# Altium footprint library adafruit.PCBLIB: 630 footprints (part 14 of 40)
Each footprint in its own frame and in the unit in brackets; x right, y up, seen from the top. Pads: shape width x height; smd on the part's side, far side on the other; paste and mask are expansions set on the pad; w line width, h text height; cw(c..) or ccw(c..) is an arc to the next point about the centre after c.
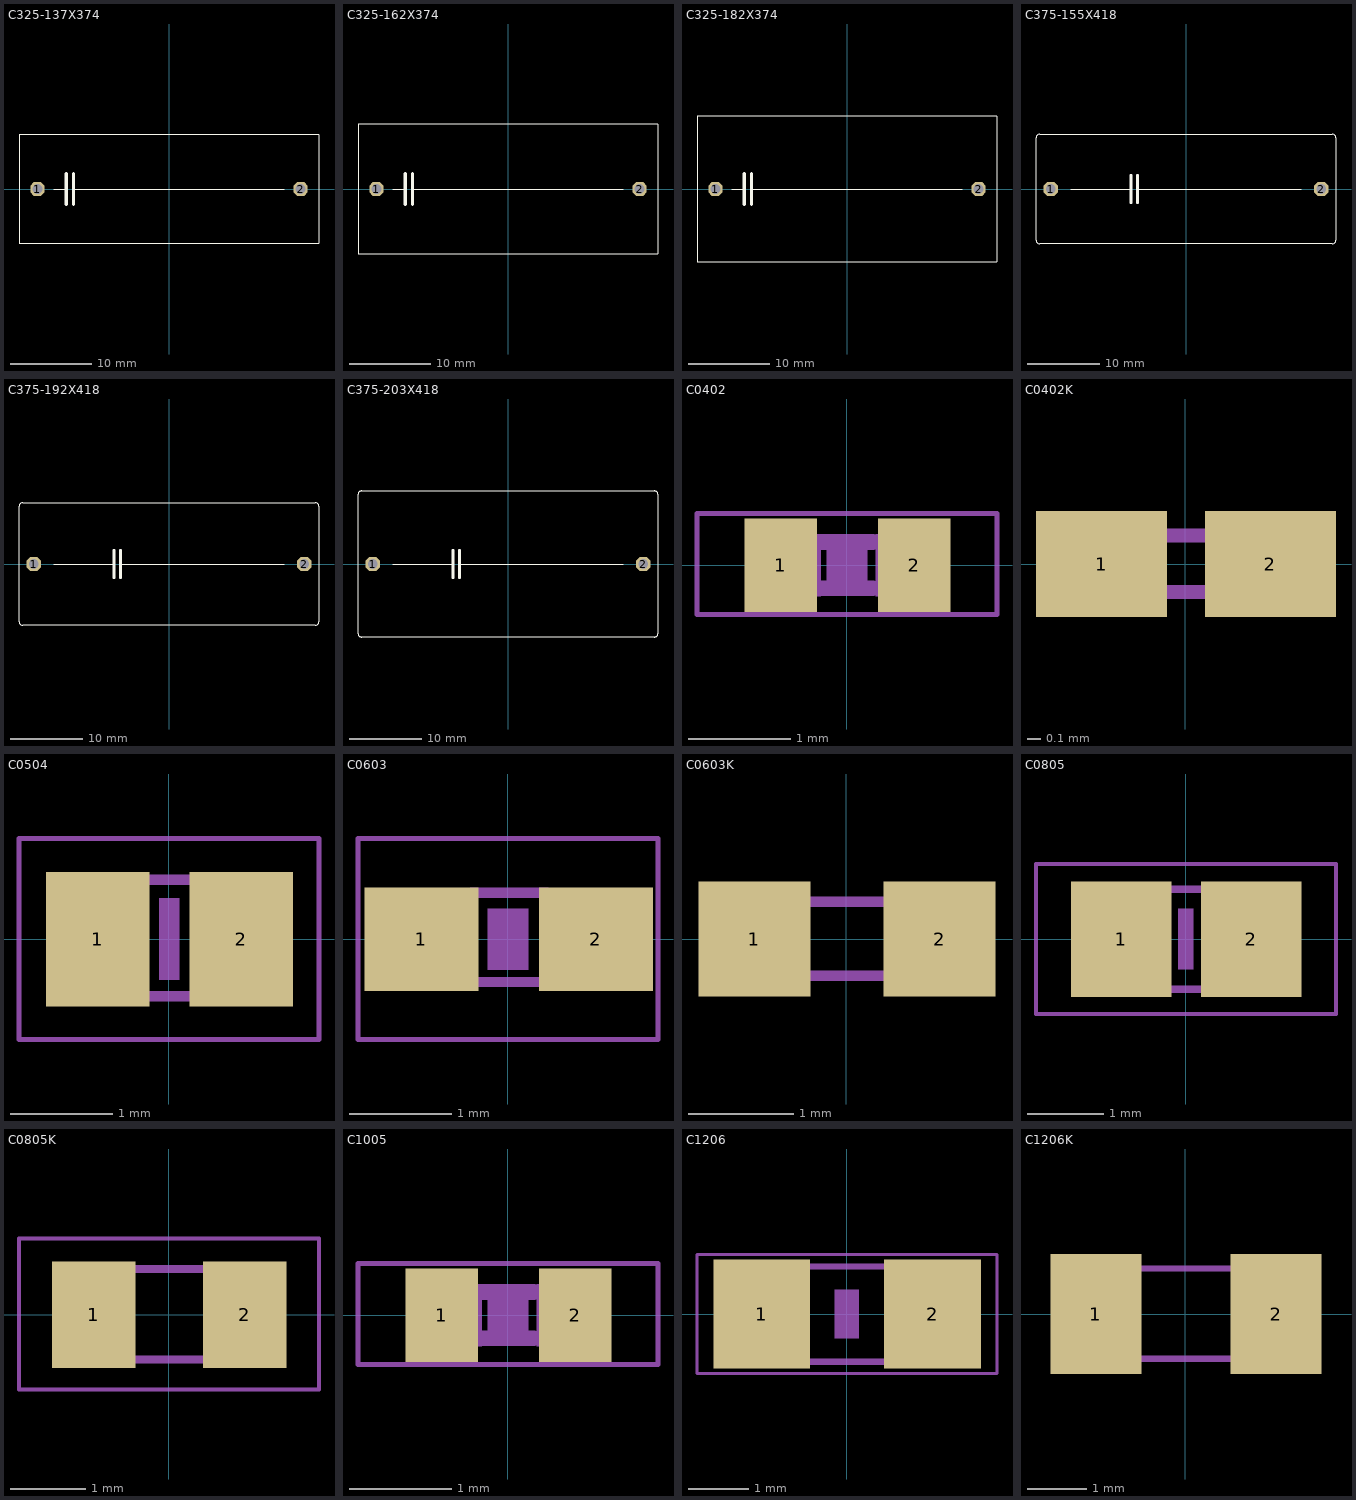
[diagram p13: the footprints below, top view; thin cyan lines are the x and y axes]

## C325-137X374 [mil]
pads (2):
  oct 70.5x70.5 hole 47: 1(-640,0) 2(640,0)
Top Overlay:
  lines w6: -562,0 -500,0 ; -465,0 562,0 ; -730,-265 -730,265 730,265 730,-265 -730,-265
  lines w16: -500,-75 -500,0 -500,75 ; -465,-75 -465,0 -465,75

## C325-162X374 [mil]
pads (2):
  oct 70.5x70.5 hole 47: 1(-640,0) 2(640,0)
Top Overlay:
  lines w6: -562,0 -500,0 ; -465,0 562,0 ; -730,-315 -730,315 730,315 730,-315 -730,-315
  lines w16: -500,-75 -500,0 -500,75 ; -465,-75 -465,0 -465,75

## C325-182X374 [mil]
pads (2):
  oct 70.5x70.5 hole 47: 1(-640,0) 2(640,0)
Top Overlay:
  lines w6: -562,0 -500,0 ; -465,0 562,0 ; -730,-355 -730,355 730,355 730,-355 -730,-355
  lines w16: -500,-75 -500,0 -500,75 ; -465,-75 -465,0 -465,75

## C375-155X418 [mil]
pads (2):
  oct 78x78 hole 52: 1(-740,0) 2(740,0)
Top Overlay:
  lines w6: -630,0 -300,0 ; -265,0 630,0 ; -820,-280 -820,280 cw(c-800,280) -800,300 800,300 cw(c800,280) 820,280 820,-280 cw(c800,-280) 800,-300 -800,-300 cw(c-800,-280) -820,-280
  lines w16: -300,-75 -300,0 -300,75 ; -265,-75 -265,0 -265,75

## C375-192X418 [mil]
pads (2):
  oct 78x78 hole 52: 1(-740,0) 2(740,0)
Top Overlay:
  lines w6: -630,0 -300,0 ; -265,0 630,0 ; -820,-315 -820,315 cw(c-800,315) -800,335 800,335 cw(c800,315) 820,315 820,-315 cw(c800,-315) 800,-335 -800,-335 cw(c-800,-315) -820,-315
  lines w16: -300,-75 -300,0 -300,75 ; -265,-75 -265,0 -265,75

## C375-203X418 [mil]
pads (2):
  oct 78x78 hole 52: 1(-740,0) 2(740,0)
Top Overlay:
  lines w6: -630,0 -300,0 ; -265,0 630,0 ; -820,-380 -820,380 cw(c-800,380) -800,400 800,400 cw(c800,380) 820,380 820,-380 cw(c800,-380) 800,-400 -800,-400 cw(c-800,-380) -820,-380
  lines w16: -300,-75 -300,0 -300,75 ; -265,-75 -265,0 -265,75

## C0402 [mil]
pads (2):
  rect 28x36 smd: 1(-25.59,0) 2(26,0)
Mechanical 6:
  rectangle: -7.87,-11.81 8,12
Mechanical 16:
  rectangle: -21.81,-12 -10,12
  rectangle: 11,-12 22,12
  lines w6: -9.65,-8.82 10,-8.82 ; -9.65,9 10,9
Mechanical 27:
  lines w2: -57.99,-19.02 58,-19.02 58,20 -57.99,20 -57.99,-19.02

## C0402K [mil]
pads (2):
  rect 37x30 smd: 1(-23.62,0) 2(24,0)
Mechanical 16:
  rectangle: -19.68,-9.84 -8.86,10
  rectangle: 9,-9.84 20,10
  lines w4: -16.73,-7.87 17,-7.87 ; -16.73,8 17,8

## C0504 [mil]
pads (2):
  rect 40x52 smd: 1(-27.56,0) 2(28,0)
Mechanical 6:
  rectangle: -3.94,-15.75 4,16
Mechanical 16:
  rectangle: -26,-24.5 -11.04,25
  rectangle: 11,-24.5 26,25
  lines w4: -11.57,-22.01 12,-22.01 ; -11.57,23 12,23
Mechanical 27:
  lines w2: -57.99,-38.7 58,-38.7 58,39 -57.99,39 -57.99,-38.7

## C0603 [mil]
pads (2):
  rect 44x40 smd: 1(-33.46,0) 2(34,0)
Mechanical 6:
  rectangle: -7.87,-11.81 8,12
Mechanical 16:
  rectangle: -33,-18.5 -13.31,19
  rectangle: 13,-18.5 33,19
  lines w4: -14.02,-16.5 15,-16.5 ; -14.02,18 15,18
Mechanical 27:
  lines w2: -57.99,-38.7 58,-38.7 58,39 -57.99,39 -57.99,-38.7

## C0603K [mil]
pads (2):
  rect 42x43 smd: 1(-34.45,0) 2(35,0)
Mechanical 16:
  rectangle: -31.5,-15.75 -17.72,16
  rectangle: 18,-15.75 32,16
  lines w4: -28.54,-13.78 29,-13.78 ; -28.54,14 29,14

## C0805 [mil]
pads (2):
  rect 52x60 smd: 1(-33.46,0) 2(34,0)
Mechanical 6:
  rectangle: -3.94,-15.75 4,16
Mechanical 16:
  rectangle: -43,-28.5 -13.47,29
  rectangle: 14,-28.5 44,29
  lines w4: -15,26 15,26 ; -14.02,-25.98 15,-25.98
Mechanical 27:
  lines w2: -77.68,-38.7 78,-38.7 78,39 -77.68,39 -77.68,-38.7

## C0805K [mil]
pads (2):
  rect 44x56 smd: 1(-39.37,0) 2(40,0)
Mechanical 16:
  rectangle: -39.37,-25.59 -19.68,26
  rectangle: 20,-25.59 40,26
  lines w4: -36.42,-23.62 37,-23.62 ; -36.42,24 37,24
Mechanical 27:
  lines w2: -78.74,-39.37 79,-39.37 79,40 -78.74,40 -78.74,-39.37

## C1005 [mil]
pads (2):
  rect 28x36 smd: 1(-25.59,0) 2(26,0)
Mechanical 6:
  rectangle: -7.87,-11.81 8,12
Mechanical 16:
  rectangle: -21.81,-12 -10,12
  rectangle: 11,-12 22,12
  lines w6: -9.65,-8.82 10,-8.82 ; -9.65,9 10,9
Mechanical 27:
  lines w2: -57.99,-19.02 58,-19.02 58,20 -57.99,20 -57.99,-19.02

## C1206 [mil]
pads (2):
  rect 63x71 smd: 1(-55.12,0) 2(56,0)
Mechanical 6:
  rectangle: -7.87,-15.75 8,16
Mechanical 16:
  rectangle: -67,-33.5 -37.47,34
  rectangle: 38,-33.43 67,34
  lines w4: -37.99,-30.98 38,-30.98 ; -37.99,31 38,31
Mechanical 27:
  lines w2: -97.36,-38.7 98,-38.7 98,39 -97.36,39 -97.36,-38.7

## C1206K [mil]
pads (2):
  rect 60x79 smd: 1(-59.06,0) 2(60,0)
Mechanical 16:
  rectangle: -62.99,-31.5 -43.31,32
  rectangle: 44,-31.5 63,32
  lines w4: -60.04,-29.53 61,-29.53 ; -60.04,30 61,30